# EAGLE library part MAX16820 (library dan)
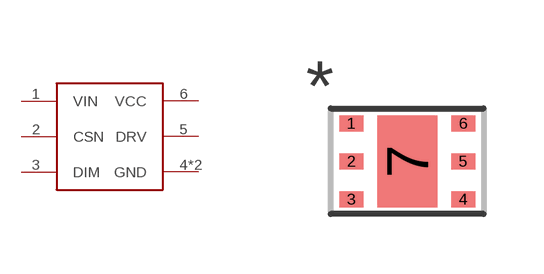
[diagram p1: symbol with the pads of TDFN-6; footprint TDFN-6]

Designator prefix -

## MAX16820  [TDFN-6]
1  VIN
2  CSN
3  DIM
4  GND
5  DRV
6  VCC
7  GND

## Footprint TDFN-6 (pad centres in mm)
smd 0.6 x 0.4: 1 -1.4,0.95; 2 -1.4,0; 3 -1.4,-0.95; 4 1.4,-0.95; 5 1.4,0; 6 1.4,0.95
smd 1.5 x 2.3: 7 0,0